# Altium schematic symbol library SCH - POWER - SWITCHMODE - TI TPS54334DRC.SchLib: 1 symbol
Pins are listed as number, name and electrical type; pins without a type are passive.

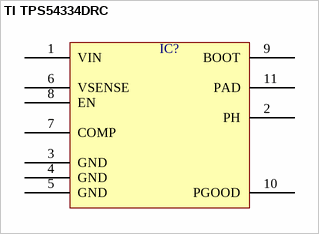
[diagram p0: symbol TI TPS54334DRC]

## TI TPS54334DRC
designator IC?  (value not drawn)
pins: 1 VIN, 2 PH, 3 GND, 4 GND, 5 GND, 6 VSENSE, 7 COMP, 8 EN, 9 BOOT, 10 PGOOD, 11 PAD